# EAGLE library part MMDT3946 (library IC)
􀁺 Complementary Pair 􀁺 One 3904-Type NPN One 3906-Type PNP 􀁺 Epitaxial Planar Die Construction 􀁺 Ideal for Low Power Amplification and Switching
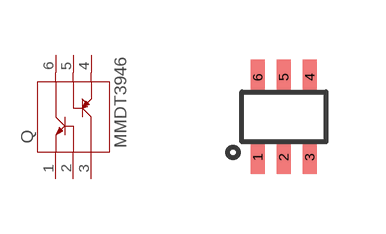
[diagram p59: symbol with the pads of SOT363; footprint SOT363]

Designator prefix Q

## MMDT3946  [SOT363]
1  E2
2  B2
3  C1
4  E1
5  B1
6  C2

## Footprint SOT363 (pad centres in mm)
smd 0.35 x 0.86: 1 -0.65,-1; 2 0,-1; 3 0.65,-1; 4 0.65,1; 5 0,1; 6 -0.65,1